# Altium schematic symbol library WA-MTAB.SchLib: 3 symbols
Pins are listed as number, name and electrical type; pins without a type are passive.

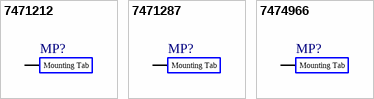
[diagram p0: symbols 7471212 to 7474966]

## 7471212
designator MP?  (value not drawn)
WA-MTAB Mounting Tab, THT, Vertical, Male, Blade 4.8mm; Manufacturer: Wurth Elektronik; Manufacturer Part Number: 7471212; Category: Mounting Tabs; Match Code: WA-MTAB; ComponentLink1Description: Website Link; ComponentLink1URL: https://www.we-online.com/redexpert/article/7471212?ad; ComponentLink2Description: Datasheet Link; ComponentLink2URL: https://www.we-online.com/redexpert/spec/7471212?ad; Mount: Through Hole; Operating Temperature Min: -55°C; Operating Temperature Max: 150°C; Packaging: Bag; Blade Design: 4.8mm; Gender: Male; Orientation: Vertical
footprint 7471212
pins: 1
text: Mounting Tab

## 7471287
designator MP?  (value not drawn)
WA-MTAB Mounting Tab, THT, Vertical, Male, Blade 6.35mm; Manufacturer: Wurth Elektronik; Manufacturer Part Number: 7471287; Category: Mounting Tabs; Match Code: WA-MTAB; ComponentLink1Description: Website Link; ComponentLink1URL: https://www.we-online.com/redexpert/article/7471287?ad; ComponentLink2Description: Datasheet Link; ComponentLink2URL: https://www.we-online.com/redexpert/spec/7471287?ad; Mount: Through Hole; Operating Temperature Min: -55°C; Operating Temperature Max: 150°C; Packaging: Bag; Blade Design: 6.35mm; Gender: Male; Orientation: Vertical
footprint 7471287
pins: 1
text: Mounting Tab

## 7474966
designator MP?  (value not drawn)
WA-MTAB Mounting Tab, THT, Right Angled, Male, Blade 6.35mm; Manufacturer: Wurth Elektronik; Manufacturer Part Number: 7474966; Category: Mounting Tabs; Match Code: WA-MTAB; ComponentLink1Description: Website Link; ComponentLink1URL: https://www.we-online.com/redexpert/article/7474966?ad; ComponentLink2Description: Datasheet Link; ComponentLink2URL: https://www.we-online.com/redexpert/spec/7474966?ad; Mount: Through Hole; Operating Temperature Min: -55°C; Operating Temperature Max: 150°C; Packaging: Bag; Blade Design: 6.35mm; Gender: Male; Orientation: Right Angled
footprint 7474966
pins: 1
text: Mounting Tab